# EAGLE library part UJC-H-G-SMT-2-P6-TR (library UJC-H-G-SMT-2-P6-TR)
Type C, Power Only, 30 Vac, 3 A, Horizontal, Gold plated 1u, Surface Mount,6 pin, USB Receptacle Source: Datasheet <https://www.sameskydevices.com/product/resource/ujc-h-g-smt-2-p6-tr.pdf>
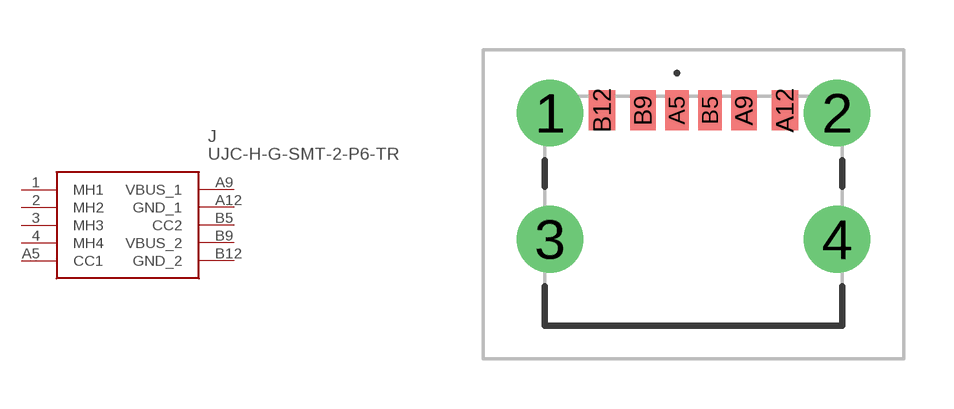
[diagram p0: symbol with the pads of UJCHGSMT2P6TR; footprint UJCHGSMT2P6TR]

Designator prefix J

## UJC-H-G-SMT-2-P6-TR (Description: Type C, Power Only, 30 Vac, 3 A, Horizontal, Gold plated 1u, Surface Mount,6 pin, USB Receptacle; Height: 3.36mm; Manufacturer_Name: Same Sky; Manufacturer_Part_Number: UJC-H-G-SMT-2-P6-TR; Mouser_Part_Number: 179-UJCHGSMT2P6TR; Mouser_Price-Stock: https://www.mouser.co.uk/ProductDetail/Same-Sky/UJC-H-G-SMT-2-P6-TR?qs=IKkN%2F947nfApFV8T6rOqww%3D%3D)  [UJCHGSMT2P6TR]
1  MH1
2  MH2
3  MH3
4  MH4
A5  CC1
A9  VBUS_1
A12  GND_1
B5  CC2
B9  VBUS_2
B12  GND_2

## Footprint UJCHGSMT2P6TR (pad centres in mm)
UJC-H-G-SMT-2-P6-TR-1
drill 1.34 pad 1.8: 1 -4.32,2.95; 2 4.32,2.95
drill 1.34 pad 2.01: 3 -4.32,-0.85; 4 4.32,-0.85
smd 0.7 x 1.2: A5 -0.5,3.03; B5 0.5,3.03
smd 0.76 x 1.2: A9 1.52,3.03; B9 -1.52,3.03
smd 0.8 x 1.2: A12 2.75,3.03; B12 -2.75,3.03